# Altium schematic symbol library C-Connector.SchLib: 407 symbols (part 4 of 4)
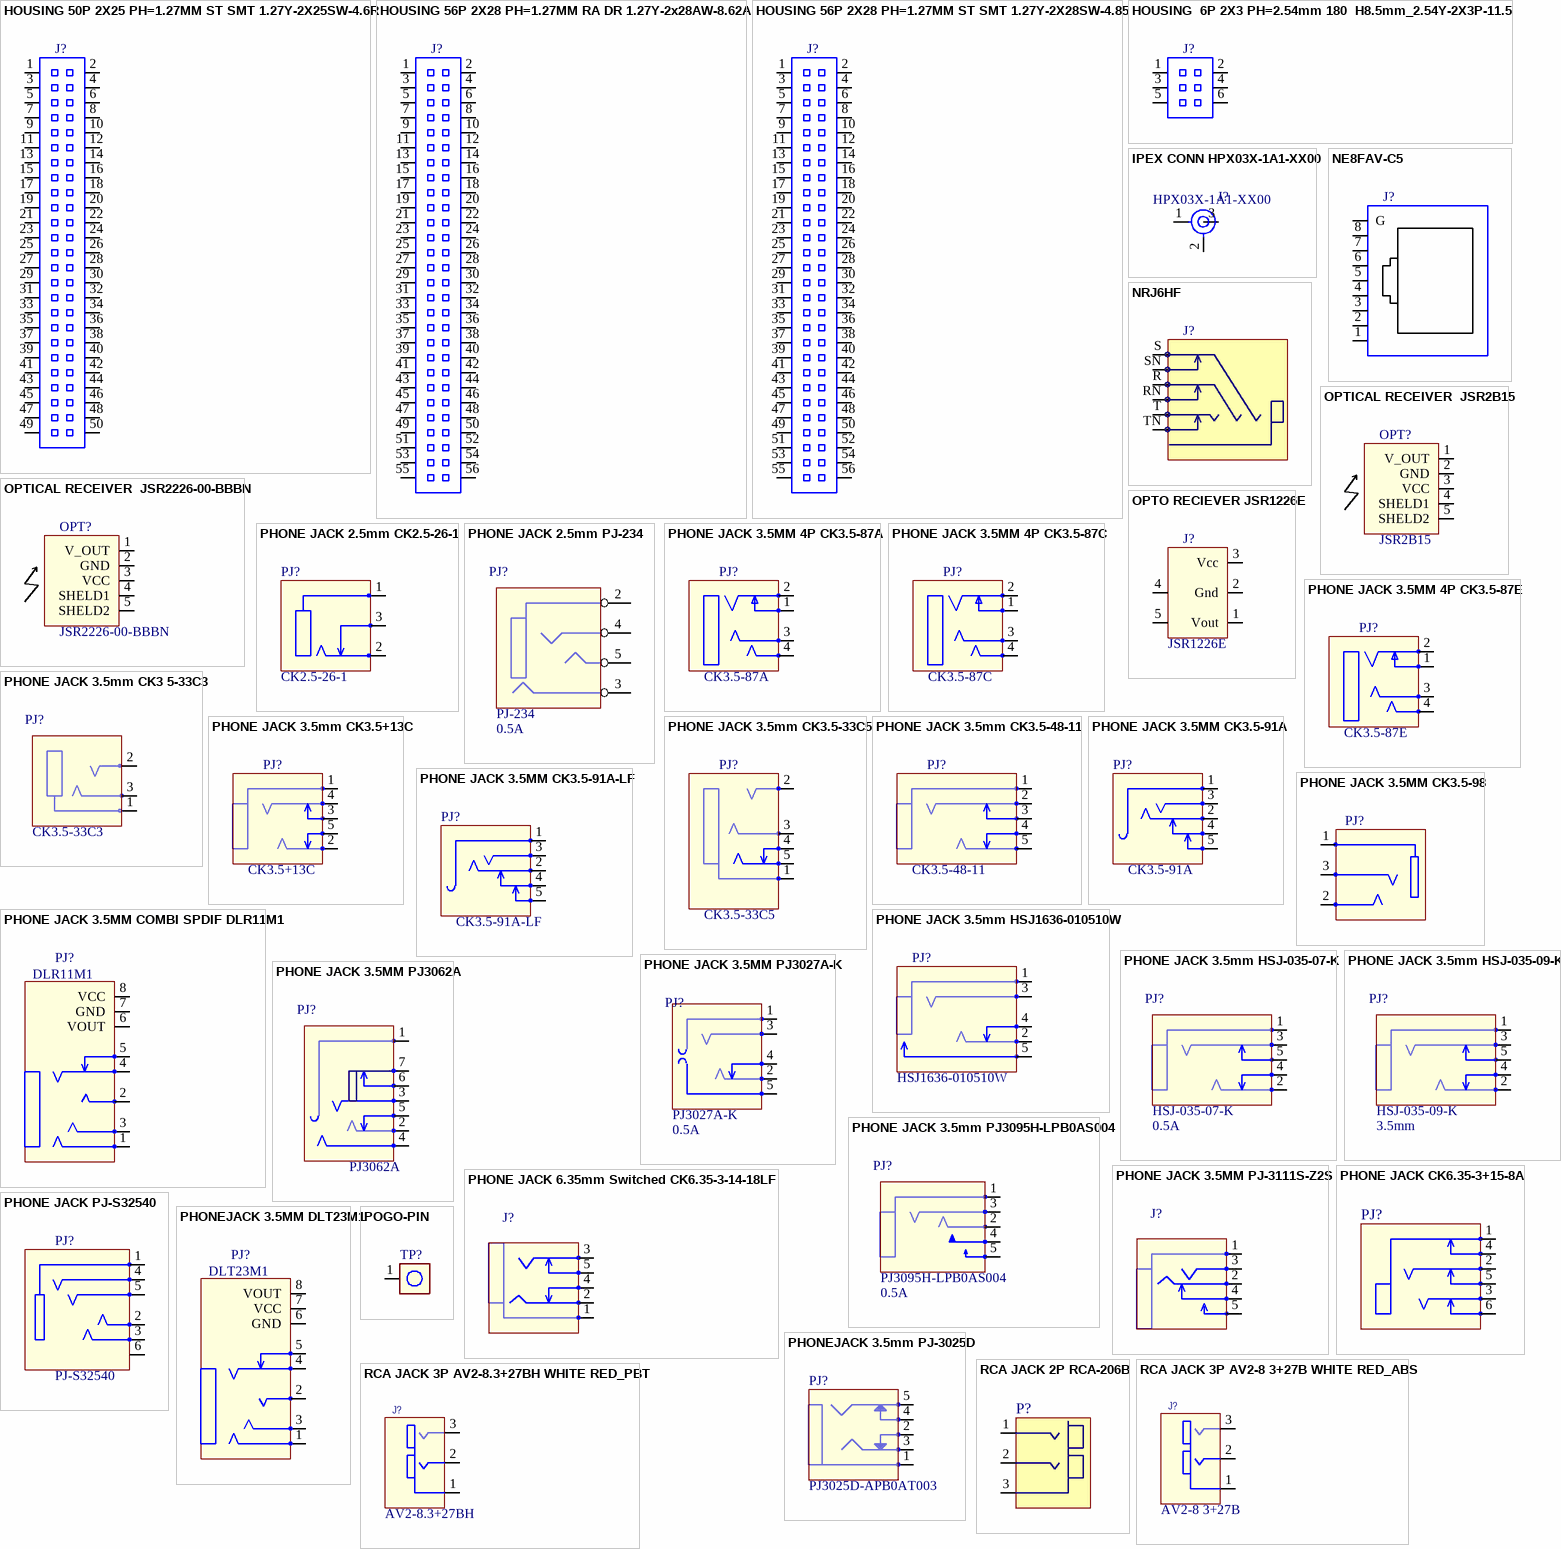
[diagram p17: symbols HOUSING 50P 2X25 PH=1.27MM ST SMT 1.27Y-2X25SW-4.6R to RCA JACK 3P AV2-8.3+27BH WHITE RED_PBT]

## PHONE JACK 3.5MM COMBI SPDIF DLR11M1
designator PJ?, comment MFG Part: DLR11M1  (hidden comment: CJMA35027-3010)
3.5mm PHONE JACK+Toslink 3.5mm 90' DLR11M1 DIP; SAP: T710200005600; MFG: 东莞明硕; CREATE_NAME: Nathan; Voltage: 5.5V; Vendor Code: *; Vendor Name: *; Value: 3.5mm; Type: Connector; CREATE_TIME: 19-DEC-2014; DIP&SMD: DIP
footprint PHONE JACK 3.5mm DLR11M1
pins: 1, 2, 3, 4, 5, 6 VOUT, 7 GND, 8 VCC

## PHONE JACK 3.5mm HSJ1636-010510W
designator PJ?, comment MFG Part: HSJ1636-010510W  (hidden comment: T710200007700)
AUX JACK 3.5MM HSJ1636-010510WE; MFG: HOSIDEN; CREATE_NAME: Tom; DIP&SMD: DIP; SAP: T710200007700; Vendor Code: *; Vendor Name: *; Value: 3.5mm; Type: Connector; CREATE_TIME: 18-Jan-2015
footprint PHONE JACK 3.5MM 5P HSJ1636-010510WE
pins: 1, 2, 3, 4, 5

## PHONE JACK 3.5mm HSJ-035-07-K
designator PJ?, comment Current: 0.5A  MFG Part: HSJ-035-07-K  (hidden comment: CJMA35001-1010)
PHONE JACK 3.5mm HSJ-035-07 NICKEL; SAP: T690300009300; Vendor Code: 10009990; Vendor Name: 东莞市中州电子有限公司; MFG: 中州; DIP&SMD: DIP; Value: 3.5mm; Type: Connector
footprint PHONE JACK 3.5mm HSJ-035-07-K (PHONE JACK 3.5mm HSJ-035-07-K   H9.5mm)
pins: 1, 2, 3, 4, 5

## PHONE JACK 3.5mm HSJ-035-09-K
designator PJ?, comment value 3.5mm  MFG Part: HSJ-035-09-K  (hidden comment: CJMA35002-3010)
PHONE JACK 3.5mm HSJ-035-09-K; SAP: T690300009400; Vendor Code: 10009990; Vendor Name: 东莞市中州电子有限公司; Current: 0.5A; MFG: 中州; DIP&SMD: DIP; Type: Connector
footprint PHONE JACK 3.5mm HSJ-035-09-K (PHONE JACK 3.5mm HSJ-035-09-K H10mm)
pins: 1, 2, 3, 4, 5

## PHONE JACK 3.5MM PJ3027A-K
designator PJ?, comment Current: 0.5A  MFG Part: PJ3027A-K  (hidden comment: CJMA35019-3010)
SMD PHONE JACK 5P D3.5MM PJ3027A-K; SAP: T690300026900; MFG: Richer; Value: 3.5mm; CREATE_NAME: GordonL@Deftronics; Vendor Code: *; Vendor Name: *; Type: Connector; CREATE_TIME: 08-APR-2013; DIP&SMD: SMD
footprint PHONE JACK 3.5MM PJ3027A-K (SMD PHONE JACK 5P D3.5MM PJ3027A-K)
pins: 1, 2, 3, 4, 5

## PHONE JACK 3.5MM PJ3062A
designator PJ?, comment MFG Part: PJ3062A  (hidden comment: CJMA35021-1010)
PHONE JACK 4P D3.5MM PJ3062A-GPB0AS003; SAP: T690300042700; MFG: 金科基; Value: 3.5mm; CREATE_NAME: TOM@Deftronics; DIP&SMD: DIP; Vendor Code: *; Vendor Name: *; Type: Connector; CREATE_TIME: 25-JUN-2013
footprint PHONE JACK 3.5MM PJ3062A (SMD PHONE JACK 5P D3.5MM PJ3027A-K)
pins: 1, 2, 3, 4, 5, 6, 7

## PHONE JACK 3.5mm PJ3095H-LPB0AS004
designator PJ?, comment Current: 0.5A  MFG Part: PJ3095H-LPB0AS004  (hidden comment: CJMA35013-1010)
PHONE JACK With Switch D3.5mm PJ3095-LPB0AS004 BLACK; SAP: T690300010300; MFG: 金科基; Value: 3.5mm; CREATE_NAME: GordonL@Deftronics; DIP&SMD: DIP; Vendor Code: *; Vendor Name: *; CREATE_TIME: 17-Aug-2012; Type: Connector
footprint PHONE JACK 3.5MM PJ3095H-LPB0AS004 (PHONE JACK With Switch D3.5mm PJ3095-LPB0AS004 BLACK)
pins: 1, 2, 3, 4, 5

## PHONE JACK 3.5MM PJ-3111S-Z2S
designator J?
PHONE JACK WITH SWITCH D3.5MM K; MFG Part: PJ-3111S-Z2; SAP: T690300010700; MFG: 罡坚塑胶电子; CREATE_NAME: Evan@Deftronics; Current: 0.5A; DIP&SMD: DIP; Vendor Name: *; Vendor Code: *; CREATE_TIME: 27-May-2014; Type: Connector; Value: *
footprint PHONE JACK 3.5MM PJ-3111S-Z2S (PHONE JACK With Switch D3.5mm)
pins: 1, 2, 3, 4, 5

## PHONE JACK 6.35mm Switched CK6.35-3-14-18LF
designator J?, comment T690300121700  (value not drawn)
6.35MM JACK SOCKET PLASTIC BLACK K; MFG Part: CK6.35-3-14-18LF; MFG: JINJIA; CREATE_NAME: Nathan; DIP&SMD: DIP; SAP: T690300121700; Vendor Name: *; Vendor Code: *; Type: Connector; CREATE_TIME: 09-Nov-2017
footprint PHONE JACK 6.35mm Switched CK6.35-3-14-18LF (6.35MM JACK SOCKET PLASTIC BLACK CK6.35-3-14-18LF)
pins: 1, 2, 3, 4, 5

## PHONE JACK CK6.35-3+15-8A
designator PJ?, comment T690300161800  (value not drawn)
6.35 CONNECTOR 6PIN DIP K; MFG Part: CK6.35-3+15-8A; MFG: JIN JIA; CREATE_NAME: Nathan; SAP: T690300161800; Vendor Name: *; Vendor Code: *; Type: Connetor; CREATE_TIME: 08-Mar-2019; DIP&SMD: DIP; Customer Specific: N/A
footprint PHONE JACK 6.35MM CK6.35-3+15-8A (PHONE JACK 6.35MM)
pins: 1, 2, 3, 4, 5, 6

## PHONE JACK PJ-S32540
designator PJ?, comment MFG Part: PJ-S32540  (hidden comment: T690300161200)
PHONE JACK 5P IP67 D3.5MM PJ-S32540 K; MFG: DAYING; Value: 3.5mm; CREATE_NAME: Tom; DIP&SMD: SMD; SAP: T690300161200; Vendor Code: *; Vendor Name: *; Type: Connector; CREATE_TIME: 27-Feb-2019; Customer Specific: N/A
footprint PHONE JACK PJ-S32540
pins: 1, 2, 3, 4, 5, 6

## PHONEJACK 3.5MM DLT23M1
designator PJ?, comment MFG Part: DLT23M1  (hidden comment: T710200017200)
3.5MM PHONE JACK+TOSLINK 90 DLT23M1 K; MFG: 东莞明硕; CREATE_NAME: Tom; Voltage: 5.5V; DIP&SMD: DIP; SAP: T710200017200; Vendor Code: *; Vendor Name: *; Value: 3.5mm; Type: Connector; CREATE_TIME: 11-Jul-2018
footprint PHONE JACK 3.5mm COMBI SPDIF DLT23M1
pins: 1, 2, 3, 4, 5, 6 GND, 7 VCC, 8 VOUT

## PHONEJACK 3.5mm PJ-3025D
designator PJ?, comment MFG Part: PJ3025D-APB0AT003  (hidden comment: T690300062200)
3.5 PHONE JACK PJ3025D-APB0AT003 DIP G; MFG: 金科基 (JRCONN ); Value: 3.5mm; CREATE_NAME: Tom; SAP: T690300062200; Vendor Code: *; Vendor Name: *; Type: Connector; CREATE_TIME: 27-Feb-2016; DIP&SMD: DIP
footprint PHONEJACK 3.5mm PJ-3025D
pins: 1, 2, 3, 4, 5

## POGO-PIN
designator TP?, comment T710000002400  (value not drawn)
POGO PIN H=10MM D=0.8MM G; MFG Part: POGO-PIN; CREATE_NAME: Tom; MFG: WALTA; DIP&SMD: DIP; CREATE_TIME: 02-Mar-2016; Type: Connector; SAP: T710000002400
footprint POGO-PIN
pins: 1

## RCA JACK 2P RCA-206B
designator P?, comment CJRA02401-0010  (value not drawn)
CONN RCA VERT 2P 24.3MM HIGH; MFG Part: RCA-206B; SAP: T690300033800; MFG: 正威实业; CREATE_NAME: TOM@Deftronics; DIP&SMD: DIP; Vendor Name: *; Vendor Code: *; Type: Connector; CREATE_TIME: 01-JUNE-2013
footprint RCA JACK 2P RCA-206B
pins: 1, 2, 3
2 alternate drawings of the same symbol

## RCA JACK 3P AV2-8 3+27B WHITE RED_ABS
designator J?, comment MFG Part: AV2-8 3+27B  (hidden comment: T710200006400)
RCA-2 OVERGILD G; MFG: 金佳; CREATE_NAME: Tom; DIP&SMD: DIP; SAP: T710200006400; Vendor Code: *; Vendor Name: *; Color: White Red; Current: *; Type: Connector; CREATE_TIME: 10-Jun-2015
footprint RCA JACK AV2-8 3+27B (Copy for RCA JACK HPJ-202H-05-G-W)
pins: 1, 2, 3

## RCA JACK 3P AV2-8.3+27BH WHITE RED_PBT
designator J?, comment MFG Part: AV2-8.3+27BH  (hidden comment: T710200008800)
RCA-2 OVERGILD PIN JACK K; MFG: JINJIA; CREATE_NAME: Nathan; Remark: AV2-8.3+27BH 白塑座(塑座PBT); DIP&SMD: DIP; SAP: T710200008800; Vendor Code: *; Vendor Name: *; Color: White Red; Current: *; Type: Connector; CREATE_TIME: 11-July-2016
footprint RCA JACK AV2-8 3+27B (Copy for RCA JACK HPJ-202H-05-G-W)
pins: 1, 2, 3

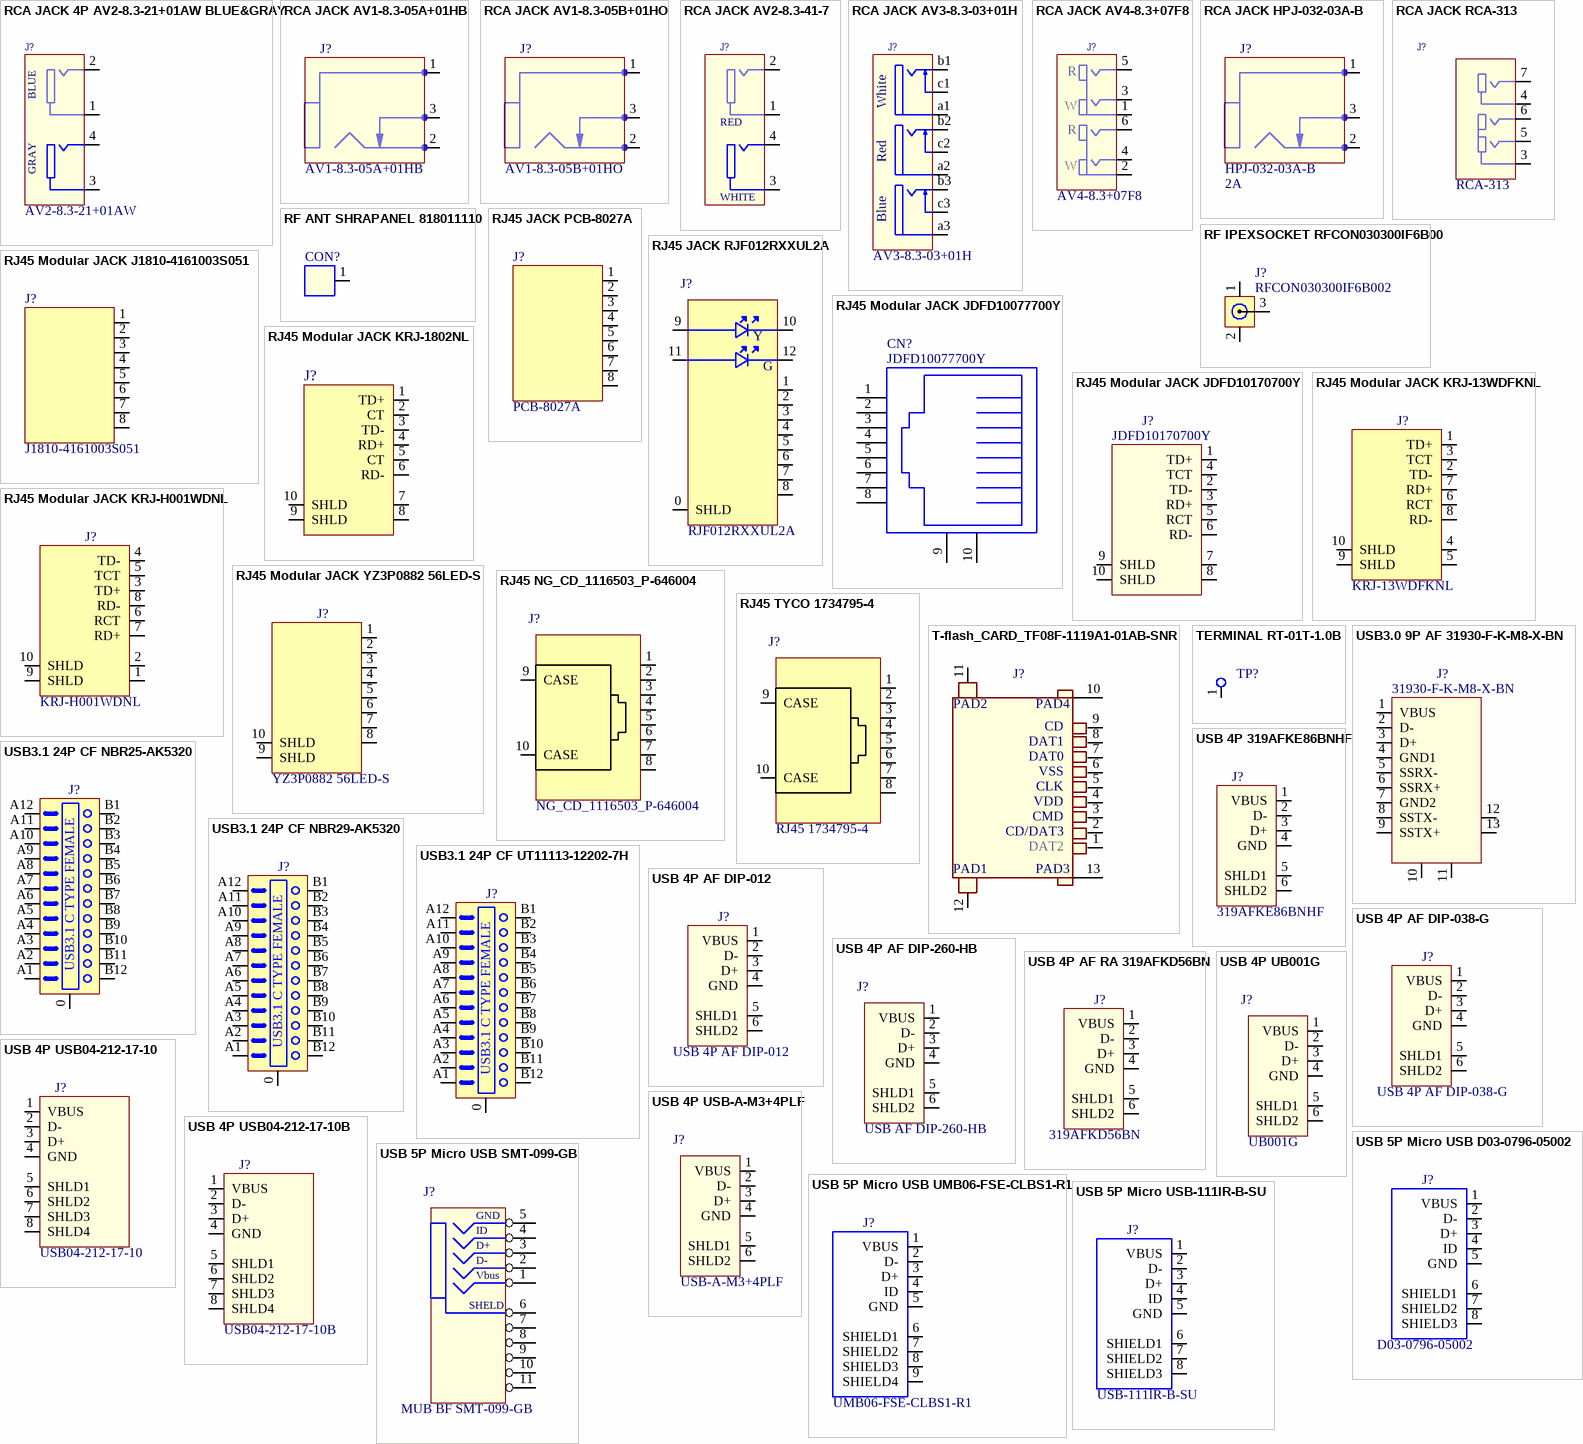
[diagram p13: symbols RCA JACK 4P AV2-8.3-21+01AW BLUE&GRAY to USB 5P Micro USB-111lR-B-SU]

## RCA JACK 4P AV2-8.3-21+01AW BLUE&GRAY
designator J?, comment MFG Part: AV2-8.3-21+01AW  (hidden comment: T690300067300)
PIN JACK AV2-8.3-21+01AW DIP 30V DC 0. G; MFG: 金佳; CREATE_NAME: Tom; SAP: T690300067300; Vendor Code: *; Vendor Name: *; Color: BLUE&GRAY; Current: *; Type: Connector; CREATE_TIME: 27-Feb-2016; DIP&SMD: DIP
footprint RCA JACK 4P AV2-8.3-21+01AW BLUE&GRAY
pins: 1 1S, 2, 3 3S, 4
text: BLUE; GRAY

## RCA JACK AV1-8.3-05A+01HB
designator J?, comment MFG Part: AV1-8.3-05A+01HB  (hidden comment: T690300080900)
RCA JACK AV1-8.3-05A+01HB NICKEL BLACK G; MFG: JIN JIA; CREATE_NAME: Tom; DIP&SMD: DIP; Vendor Name: *; Vendor Code: *; SAP: T690300080900; Type: Connector; CREATE_TIME: 15-Jul-2016
footprint RCA JACK AV1-8.3-05A+01HB (AV1-8.3-05A+01HB)
pins: 1, 2, 3

## RCA JACK AV1-8.3-05B+01HO
designator J?, comment MFG Part: AV1-8.3-05B+01HO  (hidden comment: T690300108400)
CONN RCA PIN JACK 3P AV1-8.3-05B+01HO K; MFG: JIN JIA; CREATE_NAME: Nathan; DIP&SMD: DIP; Vendor Name: *; Vendor Code: *; SAP: T690300108400; Type: Connector; CREATE_TIME: 09-June-2017
footprint RCA JACK AV1-8.3-05B+01HO (AV1-8.3-05B+01HB)
pins: 1, 2, 3

## RCA JACK AV2-8.3-41-7
designator J?, comment T690300074800  (value not drawn)
RCA 2P P=15MM FM\180 RED\WHITE G; MFG Part: AV2-8.3-41-7; MFG: JIN JIA; CREATE_NAME: Tom; DIP&SMD: DIP; SAP: T690300074800; Vendor Code: *; Vendor Name: *; Color: White/Red; Current: *; Type: Connector; CREATE_TIME: 22-Feb-2016
footprint RCA JACK 4P AV2-8.3-41-7 (RCA JACK 4P AV2-8.3-21-1 H19.5mm)
pins: 1, 2, 3, 4
text: RED; WHITE

## RCA JACK AV3-8.3-03+01H
designator J?, comment MFG Part: AV3-8.3-03+01H  (hidden comment: T710200015300)
RCA JACK DIP 6P AV3-8.3-03+01H W\R\B K; MFG: 金佳; CREATE_NAME: Nathan; SAP: T710200015300; Color: W\R\B; Vendor Code: *; Vendor Name: *; CREATE_TIME: 23-Jan-2018; Type: Connector; DIP&SMD: DIP
footprint RCA JACK AV3-8.3-03+01H
pins: a1, a2, a3, b1, b2, b3, c1, c2, c3
text: White; Red; Blue

## RCA JACK AV4-8.3+07F8
designator J?, comment MFG Part: AV4-8.3+07F8  (hidden comment: T690300054000)
RCA JACK AV4-8.3+07F8 GOLD RED&WHITE K; MFG: 金佳; Current: 2A; DIP&SMD: DIP; CREATE_NAME: Nathan; SAP: T690300054000; Color: 2 Red x 2 White; Vendor Code: *; Vendor Name: *; Type: Connector; CREATE_TIME: 29-Jan-2018
footprint RCA JACK AV4-8.3+07F8 (RCA JACK AV4-8.3+07F8  H27mm)
pins: 1, 2, 3, 4, 5, 6
text: R; W

## RCA JACK HPJ-032-03A-B
designator J?, comment Current: 2A  MFG Part: HPJ-032-03A-B  (hidden comment: CJRA01201-0010)
RCA JACK HPJ-032-03A-B Nickel BLACK; MFG: 中州; Vendor Name: 东莞市中州电子有限公司; Vendor Code: 10009990; SAP: T690300033500; DIP&SMD: DIP; Type: Connector
footprint RCA JACK HPJ-032-03A (RCA JACK HPJ-032-03A H13mm)
pins: 1, 2, 3

## RCA JACK RCA-313
designator J?, comment MFG Part: RCA-313  (hidden comment: CJRA03401-0010)
RCA JACK  RCA313 WHITE/RED/PURPLE; SAP: T690300034300; MFG: 金明浩; Vendor Code: 10010007; Vendor Name: 深圳市金明浩电子科技有限公司; Current: 0.2A; DIP&SMD: DIP; Color: WHITE/RED/PURPLE; Type: Connector
footprint RCA JACK RCA-313 (RCA JACK RCA-313 H40mm)
pins: 3, 4, 5, 6, 7

## RF ANT SHRAPANEL 818011110
designator CON?, comment T690300140300  (value not drawn)
SMD 1P 818011110 K; CREATE_NAME: Nathan; MFG: 金瑞康; CREATE_TIME: 08-May-2018; DIP&SMD: SMD; Type: Shrapanel; MFG Part: 818011110; Customer Specific: N/A; SAP: T690300140300
footprint RF ANT SHRAPANEL SMT 818011110 (Antenna RF Spring, SMT, AU Plating, L3.5*W1.5*H4.35)
pins: 1

## RF IPEXSOCKET RFCON030300IF6B00
designator J?, comment MFG Part: RFCON030300IF6B002  (hidden comment: T690300090900)
CONN RF IPEXSOCKET WALSIN 3.1*3.0*1.25 K; CREATE_NAME: Nathan; DIP&SMD: SMD; Vendor Code: *; Vendor Name: *; MFG: WALSIN; TYPE: Connector; CREATE_TIME: 27-Dec-2017; SAP: T690300090900
footprint RF IPEXSOCKET RFCON030300IF6B00 (CONN RF IPEXSOCKET WALSIN 3.1*3.0*1.25 6GHZ MP P2)
pins: 1 GND, 2 GND, 3

## RJ45 JACK PCB-8027A
designator J?, comment MFG Part: PCB-8027A  (hidden comment: T690300145300)
RJ45 JACK PCB-8027A K; MFG: JINJIA; CREATE_NAME: Tom; DIP&SMD: DIP; Vendor Code: *; Vendor Name: *; TYPE: Connector; SAP: T690300145300; CREATE_TIME: 28-Jun-2018
footprint RJ45 ACK PCB-8027A (RJ45  JACK 90)
pins: 1, 2, 3, 4, 5, 6, 7 8, 8

## RJ45 JACK RJF012RXXUL2A
designator J?, comment MFG Part: RJF012RXXUL2A  (hidden comment: T690300083300)
CON RJ45 RJF012RXXUL2A 8P 1.27MM S-USA K; CREATE_NAME: Tom; DIP&SMD: DIP; SAP: T690300083300; Vendor Code: *; Vendor Name: *; MFG: S-USA; Type: Connector; CREATE_TIME: 10-Apr-2019
footprint RJ45 RJF012RXXUL2A
pins: 0 SHLD, 1, 2, 3, 4, 5, 6, 7, 8, 9, 10, 11, 12
text: Y; G

## RJ45 Modular JACK J1810-4161003S051
designator J?, comment MFG Part: J1810-4161003S051  (hidden comment: CJE080012-0001)
RJ45 MODULAR JACK J1810-4161003S051 8P8C; MFG: JJP; CREATE_NAME: Tom; SAP: T710200005500; DIP&SMD: DIP; Vendor Code: *; Vendor Name: *; TYPE: Connector; CREATE_TIME: 06-May-2015
footprint RJ45 Modular JACK J1810-4161003S051
pins: 1, 2, 3, 4, 5, 6, 7 8, 8

## RJ45 Modular JACK JDFD10077700Y
designator CN?, comment MFG Part: JDFD10077700Y  (hidden comment: T690300108600)
RJ45 JACK 8P P1.27 JDFD10077700Y K; MFG: CZT (意华通讯接插件有限公司); CREATE_NAME: Nathan; DIP&SMD: DIP; Vendor Code: *; Vendor Name: *; TYPE: Connector; CREATE_TIME: 25-Apr-2015; SAP: T690300108600
footprint RJ45 Modular JACK JDFD10077700Y (RJ45 ICM (10/100 Base-T 1 Port))
pins: 1, 2, 3, 4, 5, 6, 7, 8, 9, 10

## RJ45 Modular JACK JDFD10170700Y
designator J?, comment MFG Part: JDFD10170700Y  (hidden comment: T690300137300)
RJ45 JACK JDFD10170700Y 8 PIN 1.27MM F L; MFG: TECONN; DIP&SMD: DIP; CREATE_NAME: Nathan; SAP: T690300137300; Vendor Code: *; Vendor Name: *; Type: Connector; CREATE_TIME: 26-Mar-2018
footprint RJ45 Modular JACK JDFD10170700Y (RJ45 ICM (10/100 Base-T 1 Port))
pins: 1 TD+, 2 TD-, 3 RD+, 4 TCT, 5 RCT, 6 RD-, 7, 8, 9 SHLD, 10 SHLD

## RJ45 Modular JACK KRJ-13WDFKNL
designator J?, comment MFG Part: KRJ-13WDFKNL  (hidden comment: CJE080003-0001)
RJ45MODULAR JACK KRJ-13WDFKNL 8P8C; MFG: 创恩; CREATE_NAME: Nathan; SAP: T690300008700; DIP&SMD: DIP; Vendor Code: *; Vendor Name: *; TYPE: Connector; CREATE_TIME: 22-SEP-2014
footprint RJ45 Modular JACK KRJ-13WDFKNL (RJ45 Modular JACK 90)
pins: 1 TD+, 2 TD-, 3 TCT, 4, 5, 6 RCT, 7 RD+, 8 RD-, 9 SHLD, 10 SHLD

## RJ45 Modular JACK KRJ-1802NL
designator J?, comment T710200007900  (value not drawn)
ETHERNET JACK KRJ-1802NL AT-40+85 G; MFG: 创恩电子; CREATE_NAME: Tom; DIP&SMD: DIP; SAP: T710200007900; Vendor Name: *; Vendor Code: *; Type: Connector; CREATE_TIME: 27-Mar-2015; MFG Part: KRJ-1802NL
footprint RJ45 Modular JACK KRJ-1802NL (10/100BASE 1X1 180 Tab-Up RJ45)
pins: 1 TD+, 2 CT, 3 TD-, 4 RD+, 5 CT, 6 RD-, 7, 8, 9 SHLD, 10 SHLD

## RJ45 Modular JACK KRJ-H001WDNL
designator J?, comment MFG Part: KRJ-H001WDNL  (hidden comment: CJE080003-0002)
RJ45MODULAR JACK KRJ-H001WDNL 8P8C; MFG: 创恩; CREATE_NAME: Nathan; SAP: T710200000300; DIP&SMD: DIP; Vendor Code: *; Vendor Name: *; TYPE: Connector; CREATE_TIME: 25-SEP-2014
footprint RJ45 Modular JACK KRJ-H001WDNL (RJ45 Modular JACK 90)
pins: 1, 2, 3 TD+, 4 TD-, 5 TCT, 6 RCT, 7 RD+, 8 RD-, 9 SHLD, 10 SHLD

## RJ45 Modular JACK YZ3P0882 56LED-S
designator J?, comment MFG Part: YZ3P0882 56LED-S  (hidden comment: T690300098500)
RJ45 JACK DIP NO LED LOW CONTACT G; MFG: 意兆; CREATE_NAME: Tom; Vendor Code: *; Vendor Name: *; TYPE: Connector; CREATE_TIME: 26-Dec-2016; SAP: T690300098500; DIP&SMD: DIP
footprint RJ45 Modular JACK YZ3P0882 56LED-S
pins: 1, 2, 3, 4, 5, 6, 7, 8, 9 SHLD, 10 SHLD

## RJ45 NG_CD_1116503_P-646004
designator J?, comment MFG Part: NG_CD_1116503_P-646004  (hidden comment: T690300053700)
RJ45 NG_CD_1116503_P-646004 RA JACK H; MFG: TE; CREATE_NAME: Tom; DIP&SMD: DIP; SAP: T690300053700; Vendor Code: *; Vendor Name: *; Type: Connector; CREATE_TIME: 21-Oct-2015
footprint rj45 NG_CD_1116503_P-646004
pins: 1, 2, 3, 4, 5, 6, 7, 8, 9 CASE, 10 CASE

## RJ45 TYCO 1734795-4
designator J?, comment MFG Part: RJ45 1734795-4  (hidden comment: CJE080010-0002)
Conn RJ45 Shield-CAT3-small size sideEnt; SAP: T690300008900; MFG: TYCO; DIP&SMD: DIP; Vendor Code: *; Vendor Name: *; Type: Connector
footprint RJ45 TYCO 1734795-4
pins: 1, 2, 3, 4, 5, 6, 7, 8, 9 CASE, 10 CASE

## T-flash_CARD_TF08F-1119A1-01AB-SNR
designator J?, comment T710000002500  (value not drawn)
TF08F-1119A1-01AB-SNR 8PIN G; MFG: 金瑞康; CREATE_NAME: Nathan; DIP&SMD: SMD; SAP: T710000002500; Vendor Name: *; Vendor Code: *; Type: Connector; CREATE_TIME: 26-MAY-2016; MFG Part: TF08F-1119A1-01AB-SNR
footprint T-flash_CARD_PUSH-PUSH
pins: 1 DAT2, 2 DAT3, 3 CMD, 4 VDD, 5 CLK, 6 VSS, 7 DAT0, 8 DAT1, 9 CD, 10 PAD4, 11 PAD2, 12 PAD1, 13 PAD3
text: CD/DAT3

## TERMINAL RT-01T-1.0B
designator TP?, comment COT140001-0001  (value not drawn)
TERMINAL 11MM G; MFG Part: RT-01T-1.0B; CREATE_NAME: Nathan; SAP: T690300035900; MFG: 利民豐（JST); DIP&SMD: DIP; Vendor Name: *; Vendor code: *; Type: *; Package: *; CREATE_TIME: 07-July-2016
footprint RT-01T-1.0B (TERMINAL 11MM)
pins: 1

## USB3.0 9P AF 31930-F-K-M8-X-BN
designator J?, comment MFG Part: 31930-F-K-M8-X-BN  (hidden comment: T690300130600)
USB 3.0 F A BLACK 31930F-K-M8-X-BN L; MFG: 顯赫; Current: 1.5A; CREATE_NAME: Nathan; DIP&SMD: SMD; Value: *; Vendor Name: *; Vendor Code: *; SAP: T690300130600; CREATE_TIME: 23-Jan-2018; Type: Connector
footprint USB3.0 9P AF 31930-F-K-M8-X-BN (USB 3.0 F A BLACK 31930-F-K-M8-X-BN)
pins: 1 VBUS, 2 D-, 3 D+, 4 GND1, 5 SSRX-, 6 SSRX+, 7 GND2, 8 SSTX-, 9 SSTX+, 10 SHIELD1, 11 SHIELD2, 12 SHIELD4, 13 SHIELD3

## USB3.1 24P CF NBR25-AK5320
designator J?, comment T710200007100  (value not drawn)
USB TYPE-C CONNECTOR ACON NBR25-AKX G; MFG Part: NBR25-AK5320; CREATE_NAME: Nathan; DIP&SMD: SMD; Value: *; SAP: T710200007100; MFG: ACON; Vendor Name: *; Vendor Code: *; Type: Connector; Current: *; CREATE_TIME: 12-OCT-2015
footprint USB3.1 24P NBR25-AK5320 (USB3.1 C Type FEMALE, H-3.35)
pins: 0, A1 GND, A2 SSTXp1, A3 SSTXn1, A4 VBUS, A5 CC1, A6 Dp1, A7 Dn1, A8 SBU1, A9 VBUS, A10 SSRXn2, A11 SSRXp2, A12 GND, B1 GND, B2 SSTXp2, B3 SSTXn2, B4 VBUS, B5 CC2, B6, B7, B8 SBU2, B9 VBUS, B10 SSRXn1, B11 SSRXp1, B12 GND
text: USB3.1 C TYPE FEMALE

## USB3.1 24P CF NBR29-AK5320
designator J?, comment T710200008000  (value not drawn)
USB TYPE-C CONNECTOR ACON NBR29-AK5320 H; CREATE_NAME: Nathan; DIP&SMD: SMD; Value: *; SAP: T710200008000; MFG: ACON; MFG Part: NBR29-AK5320; Vendor Name: *; Vendor Code: *; Type: Connector; Current: *; CREATE_TIME: 25-Apr-2016
footprint USB3.1 24P NBR29-AK5320 (USB3.1 C Type FEMALE, H-3.35)
pins: 0, A1 GND, A2 SSTXp1, A3 SSTXn1, A4 VBUS, A5 CC1, A6 Dp1, A7 Dn1, A8 SBU1, A9 VBUS, A10 SSRXn2, A11 SSRXp2, A12 GND, B1 GND, B2 SSTXp2, B3 SSTXn2, B4 VBUS, B5 CC2, B6, B7, B8 SBU2, B9 VBUS, B10 SSRXn1, B11 SSRXp1, B12 GND
text: USB3.1 C TYPE FEMALE

## USB3.1 24P CF UT11113-12202-7H
designator J?, comment T710200008100  (value not drawn)
USB TYPE-C CONNECTOR FOXCONN UT11113-12202-7 HH; CREATE_NAME: Nathan; DIP&SMD: SMD; Value: *; SAP: T710200008100; MFG: FOXCONN; MFG Part: UT11113-12202-7H; Vendor Name: *; Vendor Code: *; Type: Connector; Current: *; CREATE_TIME: 03-May-2016
footprint USB3.1 24P UT11113-12202-7H (USB3.1 C Type FEMALE, H-3.95)
pins: 0, A1 GND, A2 SSTXp1, A3 SSTXn1, A4 VBUS, A5 CC1, A6 Dp1, A7 Dn1, A8 SBU1, A9 VBUS, A10 SSRXn2, A11 SSRXp2, A12 GND, B1 GND, B2 SSTXp2, B3 SSTXn2, B4 VBUS, B5 CC2, B6, B7, B8 SBU2, B9 VBUS, B10 SSRXn1, B11 SSRXp1, B12 GND
text: USB3.1 C TYPE FEMALE

## USB 4P 319AFKE86BNHF
designator J?, comment MFG Part: 319AFKE86BNHF  (hidden comment: T710200007500)
USB 4PIN AF 180 319AFKE86BNHF G; MFG: 显赫科技; CREATE_NAME: Tom; DIP&SMD: DIP; Value: *; Vendor Name: *; Vendor Code: *; SAP: T710200007500; TYPE: Connector; CREATE_TIME: 04-Nov-2015
footprint USB 4P 319AFKE86BNHF (USB 4PIN AF 180 319AFKE86BNHF G)
pins: 1 VBUS, 2 D-, 3 D+, 4 GND, 5 SHLD1, 6 SHLD2

## USB 4P AF DIP-012
designator J?, comment MFG Part: USB 4P AF DIP-012  (hidden comment: CJU060003-0003)
USB SOCKET 90' USB AF DIP-012 H=9.35mm    GAODUAN DIANZI; MFG: 高端电子有限公司; SAP: T710200002500; CREATE_NAME: Nathan; DIP&SMD: DIP; Value: *; Vendor Name: *; Vendor Code: *; TYPE: Connector; CREATE_TIME: 08-JAN-2015
footprint USB 4P AF DIP-012 (USB CONNECTOR 4P DIP-012 13.1*14.0*9.35mm)
pins: 1 VBUS, 2 D-, 3 D+, 4 GND, 5 SHLD1, 6 SHLD2

## USB 4P AF DIP-038-G
designator J?, comment MFG Part: USB 4P AF DIP-038-G  (hidden comment: CJU060003-0002)
USB SOCKET 4P 90' USB AF DIP-038-G; MFG: 高端电子有限公司; SAP: T710200002400; CREATE_NAME: Nathan; DIP&SMD: DIP; Value: *; Vendor Name: *; Vendor Code: *; TYPE: Connector; CREATE_TIME: 25-NOV-2014
footprint USB 4P AF DIP-038-G (USB CONNECTOR 4P DIP-038-G 13.1*14.1*6.95mm)
pins: 1 VBUS, 2 D-, 3 D+, 4 GND, 5 SHLD1, 6 SHLD2

## USB 4P AF DIP-260-HB
designator J?, comment MFG Part: USB AF DIP-260-HB  (hidden comment: T690300067700)
USB A 4P 180° 15MM BLACK K; MFG: 金科基; CREATE_NAME: Tom; DIP&SMD: DIP; Value: *; Vendor Name: *; Vendor Code: *; SAP: T690300067700; TYPE: Connector; CREATE_TIME: 29-Mar-2018
footprint USB 4P AF DIP-260-HB
pins: 1 VBUS, 2 D-, 3 D+, 4 GND, 5 SHLD1, 6 SHLD2

## USB 4P AF RA 319AFKD56BN
designator J?, comment MFG Part: 319AFKD56BN  (hidden comment: T690300118200)
USB CONNECTOR 319AFKD56BN DIP A TYPE K; MFG: XIANHE(显赫); CREATE_NAME: Nathan; Value: *; Vendor Name: *; Vendor Code: *; SAP: T690300118200; TYPE: Connector; CREATE_TIME: 25-NOV-2014; DIP&SMD: DIP
footprint USB 4P AF RA 319AFKD56BN (USB CONNECTOR 4P AF RA 319AFKD56BN 13.2*14.1*6.9mm)
pins: 1 VBUS, 2 D-, 3 D+, 4 GND, 5 SHLD1, 6 SHLD2

## USB 4P UB001G
designator J?, comment MFG Part: UB001G  (hidden comment: CJU040015-0001)
USB JACK 4PIN UB001G 15*20; MFG: 罡坚; SAP: T710200004600; CREATE_NAME: GordonL@Deftronics; DIP&SMD: DIP; Value: *; Vendor Name: *; Vendor Code: *; TYPE: Connector; CREATE_TIME: 14-APR-2014
footprint USB 4P UB001G
pins: 1 VBUS, 2 D-, 3 D+, 4 GND, 5 SHLD1, 6 SHLD2

## USB 4P USB04-212-17-10
designator J?, comment MFG Part: USB04-212-17-10  (hidden comment: T690300060500)
USB2.0 AF DIP TYPE USB04-212-17-10 G; MFG: 金佳电子; CREATE_NAME: Tom; Value: *; Vendor Name: *; Vendor Code: *; SAP: T690300060500; TYPE: Connector; CREATE_TIME: 26-Feb-2016; DIP&SMD: DIP
footprint USB 4P USB04-212-17-10
pins: 1 VBUS, 2 D-, 3 D+, 4 GND, 5 SHLD1, 6 SHLD2, 7 SHLD3, 8 SHLD4

## USB 4P USB04-212-17-10B
designator J?, comment MFG Part: USB04-212-17-10B  (hidden comment: T710200016100)
USB JACK 4PIN DIP 90° USB04-212-17-10B K; MFG: JINJIA; CREATE_NAME: Tom; Value: *; Vendor Name: *; Vendor Code: *; SAP: T710200016100; TYPE: Connector; CREATE_TIME: 04-May-2018; DIP&SMD: DIP
footprint USB 4P USB04-212-17-10B
pins: 1 VBUS, 2 D-, 3 D+, 4 GND, 5 SHLD1, 6 SHLD2, 7 SHLD3, 8 SHLD4

## USB 4P USB-A-M3+4PLF
designator J?, comment MFG Part: USB-A-M3+4PLF  (hidden comment: T710200011100)
USB JACK 4PIN USB-A-M3+4PLF A\F 180 C K; MFG: 金佳电子; CREATE_NAME: Tom; DIP&SMD: DIP; Value: *; Vendor Name: *; Vendor Code: *; SAP: T710200011100; TYPE: Connector; CREATE_TIME: 22-Dec-2016
footprint USB 4P USB-A-M3+4PLF
pins: 1 VBUS, 2 D-, 3 D+, 4 GND, 5 SHLD1, 6 SHLD2

## USB 5P Micro USB D03-0796-05002
designator J?, comment MFG Part: D03-0796-05002  (hidden comment: T690300096500)
SMD CONN MICRO USB 90° RECEPTACLE K; MFG: WALTA; Current: 0.5A; CREATE_NAME: Nathan; Value: *; Vendor Name: *; Vendor Code: *; SAP: T690300096500; CREATE_TIME: 21-Dec-2016; Type: Connector; DIP&SMD: SMD
footprint USB 5P Micro USB D03-0796-05002 (SMD Micro USB JACK 90'  D03-0796-05002)
pins: 1 VBUS, 2 D-, 3 D+, 4 ID, 5 GND, 6 SHIELD1, 7 SHIELD2, 8 SHIELD3

## USB 5P Micro USB SMT-099-GB
designator J?, comment MFG Part: MUB BF SMT-099-GB  (hidden comment: CJU050001-0003)
SMD MIRCO USB JACK MUB BF SMT-099-GB G; MFG: 高端电子; SAP: T690300021500; Current: 1A; CREATE_NAME: GordonL@Deftronics; Value: *; Vendor Name: *; Vendor Code: *; CREATE_TIME: 19-Dec-2013; Type: Connector; DIP&SMD: SMD
footprint USB 5P Micro USB SMT-099-GB (SMD Micro USB JACK 180' MUB BF SMT-099-GB)
pins: 1 Vbus, 2 D-, 3 D+, 4 ID, 5 GND, 6 SHELD, 7 SHELD, 8 SHELD, 9 SHELD, 10 SHELD, 11 SHELD

## USB 5P Micro USB UMB06-FSE-CLBS1-R1
designator J?, comment MFG Part: UMB06-FSE-CLBS1-R1  (hidden comment: T710200017900)
MICRO USB JACK UMB06-FSE-CLBS1-R1 K; MFG: JIN JIA; CREATE_NAME: Nathan; DIP&SMD: SMD; Value: *; Vendor Name: *; Vendor Code: *; SAP: T710200017900; Current: *; CREATE_TIME: 24-July-2018; Type: Connector; Customer Specific: N/A
footprint USB 5P UMB06-FSE-CLBS1-R1
pins: 1 VBUS, 2 D-, 3 D+, 4 ID, 5 GND, 6 SHIELD1, 7 SHIELD2, 8 SHIELD3, 9 SHIELD4

## USB 5P Micro USB-111lR-B-SU
designator J?, comment MFG Part: USB-111lR-B-SU  (hidden comment: T710200017300)
USB JACK USB-111lR-B-SU HAOYU K; CREATE_NAME: Nathan; DIP&SMD: SMD; MFG: HAOYU; Value: *; Vendor Name: *; Vendor Code: *; SAP: T710200017300; Current: *; CREATE_TIME: 17-July-2018; Type: Connector; Customer Specific: N/A
footprint USB 5P Micro USB USB-111lR-B-SU (SMD Micro USB JACK 90'  USB-111lR-B-SU)
pins: 1 VBUS, 2 D-, 3 D+, 4 ID, 5 GND, 6 SHIELD1, 7 SHIELD2, 8 SHIELD3

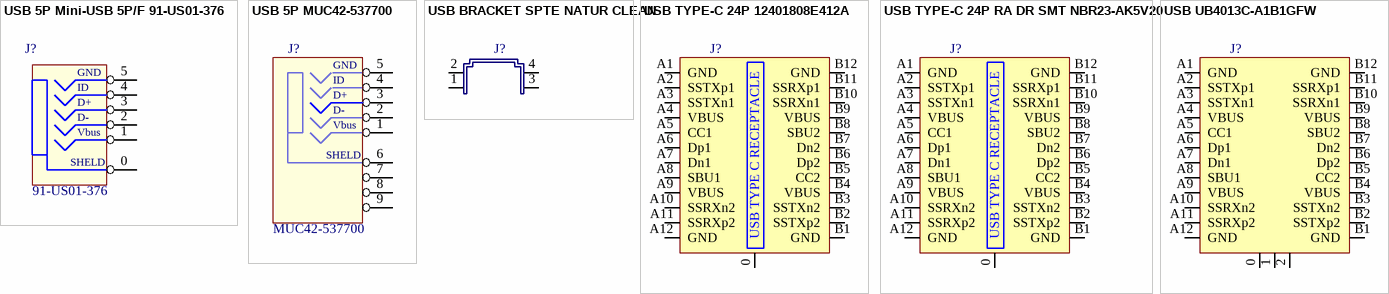
[diagram p14: symbols USB 5P Mini-USB 5P/F 91-US01-376 to USB UB4013C-A1B1GFW]

## USB 5P Mini-USB 5P/F 91-US01-376
designator J?, comment MFG Part: 91-US01-376  (hidden comment: CJU070001-0001)
USB CONNECTOR 7P USB-906H 9.4*7.7*4MM G; MFG: 金科基; SAP: T690300043800; Current: 1A; DIP&SMD: DIP; Value: *; Vendor Name: *; Vendor Code: *; Type: Connector
footprint USB 5P MNI-USB 91-US01-376 (USB CONNECTOR 5P 91-US01-376 9.4*7.7*4mm)
pins: 0 SHELD, 1 Vbus, 2 D-, 3 D+, 4 ID, 5 GND

## USB 5P MUC42-537700
designator J?, comment MFG Part: MUC42-537700  (hidden comment: T690300055300)
MICRO USB-B MUC42-537700 SMD TYPE L; MFG: ACON; Current: 1A; CREATE_NAME: GordonL@Deftronics; Remark: Add the P/N and 3D on 08-May-2018; Value: *; Vendor Name: *; Vendor Code: *; SAP: T690300055300; Type: Connector; CREATE_TIME: 14-Mar-2014; DIP&SMD: SMD; Customer Specific: N/A
footprint USB 5P MUC42-537700 (SMD Mrcio USB JACK 5P MUC42-537700)
pins: 1, 2, 3, 4, 5, 6 SHELD, 7 SHELD, 8 SHELD, 9 SHELD
text: GND; ID; D+; D-; Vbus

## USB BRACKET SPTE NATUR CLEAN
designator J?, comment T130149800100  (value not drawn)
BOOMBOX BRACKET SPTE NATUR CLEAN K; CREATE_NAME: Nathan; DIP&SMD: DIP; Value: *; SAP: T130149800100; MFG: *; MFG Part: BOOMBOX BRACKET; Vendor Name: *; Vendor Code: *; Type: Connector; Current: *; CREATE_TIME: 20-Nov-2017
footprint USB BRACKET SPTE NATUR CLEAN
pins: 1, 2, 3, 4

## USB TYPE-C 24P 12401808E412A
designator J?, comment T690300165800  (value not drawn)
USB TYPE C 12401808E412A AMPHENOL L; CREATE_NAME: Tom; DIP&SMD: SMD; Value: *; SAP: T690300165800; MFG: AMPHENOL; MFG Part: 12401808E412A; Vendor Name: *; Vendor Code: *; Type: Connector; Current: *; CREATE_TIME: 16-Apr-2019
footprint USB TYPE-C 24P C12401598_C
pins: 0, A1 GND, A2 SSTXp1, A3 SSTXn1, A4 VBUS, A5 CC1, A6 Dp1, A7 Dn1, A8 SBU1, A9 VBUS, A10 SSRXn2, A11 SSRXp2, A12 GND, B1 GND, B2 SSTXp2, B3 SSTXn2, B4 VBUS, B5 CC2, B6 Dp2, B7 Dn2, B8 SBU2, B9 VBUS, B10 SSRXn1, B11 SSRXp1, B12 GND
text: USB TYPE C RECEPTACLE

## USB TYPE-C 24P RA DR SMT NBR23-AK5V20
designator J?, comment T710200018600  (value not drawn)
USB TYPE-C CONNECTOR ACON NBR23-AK5V20 K; CREATE_NAME: Nathan; DIP&SMD: SMD; Value: *; SAP: T710200018600; MFG: ACON; MFG Part: NBR23-AK5V20; Vendor Name: *; Vendor Code: *; Type: Connector; Current: *; CREATE_TIME: 2018-12-17; Customer Specific: N/A
footprint USB TYPE-C 24P RA DR SMT NBR23-AK5V20 (USB Type-C RA DR SMT RECEPTACLE, H-3.14)
pins: 0, A1 GND, A2 SSTXp1, A3 SSTXn1, A4 VBUS, A5 CC1, A6 Dp1, A7 Dn1, A8 SBU1, A9 VBUS, A10 SSRXn2, A11 SSRXp2, A12 GND, B1 GND, B2 SSTXp2, B3 SSTXn2, B4 VBUS, B5 CC2, B6 Dp2, B7 Dn2, B8 SBU2, B9 VBUS, B10 SSRXn1, B11 SSRXp1, B12 GND
text: USB TYPE C RECEPTACLE

## USB UB4013C-A1B1GFW
designator J?, comment T710200019300  (value not drawn)
USB-C CONNECTOR IP67 UB4013C-A1B1GFW L; MFG: DAYING; CREATE_NAME: Tom; DIP&SMD: SMD; Value: *; SAP: T710200019300; MFG Part: UB4013C-A1B1GFW; Vendor Name: *; Vendor Code: *; Type: Connector; Current: *; CREATE_TIME: 27-Feb-2019; Customer Specific: N/A
footprint USB UB4013C-A1B1GFW
pins: 0, 1, 2, A1 GND, A2 SSTXp1, A3 SSTXn1, A4 VBUS, A5 CC1, A6 Dp1, A7 Dn1, A8 SBU1, A9 VBUS, A10 SSRXn2, A11 SSRXp2, A12 GND, B1 GND, B2 SSTXp2, B3 SSTXn2, B4 VBUS, B5 CC2, B6 Dp2, B7 Dn2, B8 SBU2, B9 VBUS, B10 SSRXn1, B11 SSRXp1, B12 GND